# EAGLE library part A6S-6 (library C8051F300)
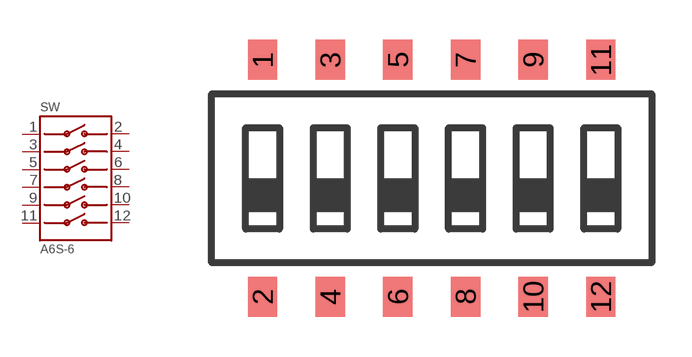
[diagram p16: symbol with the pads of A6S-6; footprint A6S-6]

Designator prefix SW

## A6S-6  [A6S-6]
1  1  pas
2  2  pas
3  3  pas
4  4  pas
5  5  pas
6  6  pas
7  7  pas
8  8  pas
9  9  pas
10  10  pas
11  11  pas
12  12  pas

## Footprint A6S-6 (pad centres in mm)
smd 1.1 x 1.5: 1 -6.35,4.45; 2 -6.35,-4.45; 3 -3.81,4.45; 4 -3.81,-4.45; 5 -1.27,4.45; 6 -1.27,-4.45; 7 1.27,4.45; 8 1.27,-4.45; 9 3.81,4.45; 10 3.81,-4.45; 11 6.35,4.45; 12 6.35,-4.45